# EAGLE library part 78XXSOIC (library Gob)
78xx Spannungsregler im SOIC8 Gehäuse
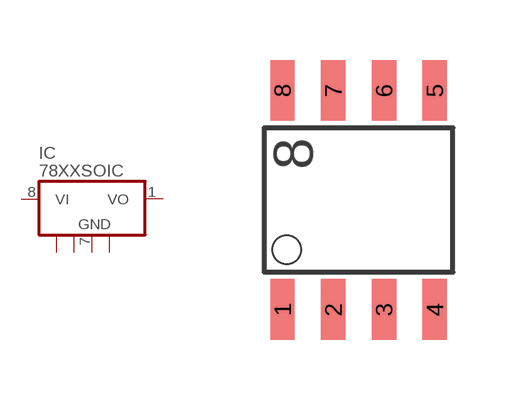
[diagram p1: symbol with the pads of SO-8; footprint SO-8]

Designator prefix IC

## 78XXSOIC  [SO-8]
1  VO  out
2  GND
3  GND
6  GND
7  GND  in
8  VI  in

## Footprint SO-8 (pad centres in mm)
smd 0.61 x 1.524: 1 -2.54,-2.743; 2 -1.27,-2.743; 3 0,-2.743; 4 1.27,-2.743; 5 1.27,2.743; 6 0,2.743; 7 -1.27,2.743; 8 -2.54,2.743